# Altium footprint library HDF15V.PcbLib: 1 footprints
Each footprint in its own frame and in the unit in brackets; x right, y up, seen from the top. Pads: shape width x height; smd on the part's side, far side on the other; paste and mask are expansions set on the pad; w line width, h text height; cw(c..) or ccw(c..) is an arc to the next point about the centre after c.
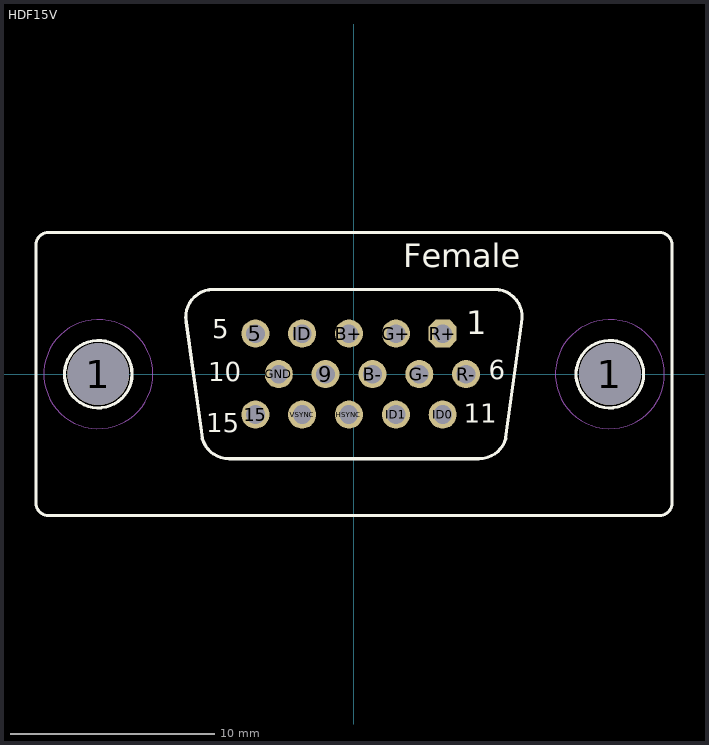
[diagram p0: the footprint, top view; thin cyan lines are the x and y axes]

## HDF15V [mil]
pads (17):
  round 119 hole 119: 1(-492.13,0) 1(493,0)
  round 54 hole 36: 5(-189.57,78) 9(-54.57,0) 15(-189.57,-77.95) B+(-9.57,78) B-(36,0) G+(81,78) G-(126,0) GND(-144.57,0) HSYNC(-9.57,-77.95) ID(-99.57,78) ID0(171,-77.95) ID1(81,-77.95) R-(216,0) VSYNC(-99.57,-77.95)
  oct 54x54 hole 36: R+(171,78)
Top Overlay:
  circle w6: c493,0 r65
  circle w6: c-492.13,0 r65
  lines w6: -587.44,-272.56 cw(c-587.44,-247.56) -612.44,-247.56 -612.44,248 cw(c-587.44,248) -587.44,273 588,273 cw(c588,248) 613,248 613,-247.56 cw(c588,-247.56) 588,-272.56 -587.13,-272.56 ; -292,-123.21 ccw(c-240.71,-109.87) -240.71,-162.87 241,-162.87 ccw(c241.35,-109.42) 293,-123.21 ; -291.69,-123.86 -322.72,100 cw(c-270.87,110.2) -270.71,163 271,163 cw(c271.22,110.06) 323,99 292,-122.87
  text "1" at 216,61 h77.5
  text "5" at -272.24,57 h62
  text "6" at 260,-22.24 h62
  text "10" at -280.12,-26.18 h62
  text "15" at -284.25,-124.61 h62
  text "11" at 212,-106.5 h62
  text "Female" at 95,190 h77.5
Mechanical 2:
  text ">SVGA" at -450,300 h108.5
Mechanical 4:
Mechanical 9:
  circle w0: c493,0 r105
  circle w0: c-492.13,0 r105
Mechanical 10:
  circle w0: c493,0 r105
  circle w0: c-492.13,0 r105
Mechanical 16:
  text "HDF15 CONEC" at -473.74,211 h77.5